# Altium schematic symbol library SmartControl.SchLib: 1 symbol
Pins are listed as number, name and electrical type; pins without a type are passive.

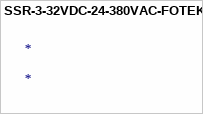
[diagram p0: symbol SSR-3-32VDC-24-380VAC-FOTEK]

## SSR-3-32VDC-24-380VAC-FOTEK
designator *